# EAGLE library part ATMEGA328P-AU (library OPL5)
8-bit AVR Microcontroller with 32K Bytes In-System Programmable Flash
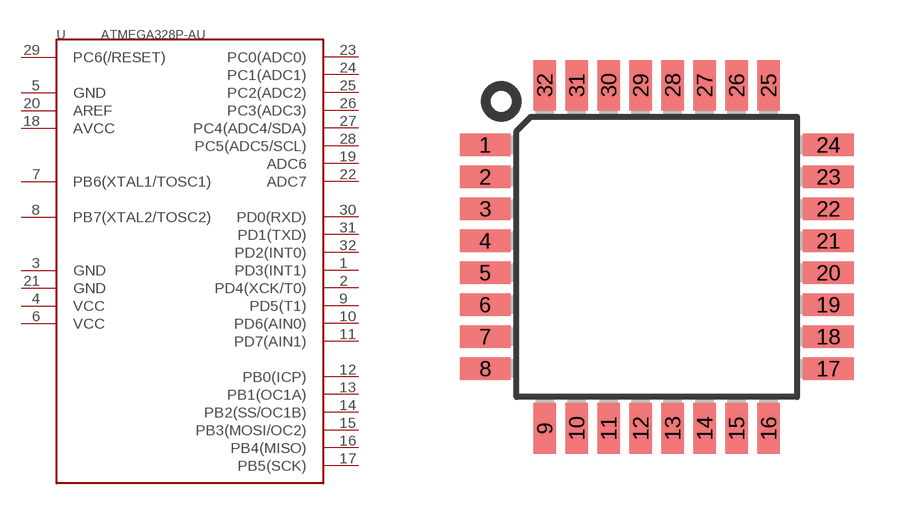
[diagram p2: symbol with the pads of TQFP32; footprint TQFP32]

Designator prefix U

## ATMEGA328P-AU-1030060P1  [TQFP32]
1  PD3(INT1)  sup
2  PD4(XCK/T0)  sup
3  GND  sup
4  VCC  sup
5  GND  sup
6  VCC  sup
7  PB6(XTAL1/TOSC1)  sup
8  PB7(XTAL2/TOSC2)  sup
9  PD5(T1)  sup
10  PD6(AIN0)  sup
11  PD7(AIN1)  sup
12  PB0(ICP)  sup
13  PB1(OC1A)  sup
14  PB2(SS/OC1B)  sup
15  PB3(MOSI/OC2)  sup
16  PB4(MISO)  sup
17  PB5(SCK)  sup
18  AVCC  sup
19  ADC6  sup
20  AREF  sup
21  GND  sup
22  ADC7  sup
23  PC0(ADC0)  sup
24  PC1(ADC1)  sup
25  PC2(ADC2)  sup
26  PC3(ADC3)  sup
27  PC4(ADC4/SDA)  sup
28  PC5(ADC5/SCL)  sup
29  PC6(/RESET)  sup
30  PD0(RXD)  sup
31  PD1(TXD)  sup
32  PD2(INT0)  sup

## Footprint TQFP32 (pad centres in mm)
Thin Plasic Quad Flat Package Grid 0.8 mm
smd 1.27 x 0.559: 1 -4.293,2.8; 2 -4.293,2; 3 -4.293,1.2; 4 -4.293,0.4; 5 -4.293,-0.4; 6 -4.293,-1.2; 7 -4.293,-2; 8 -4.293,-2.8; 17 4.293,-2.8; 18 4.293,-2; 19 4.293,-1.2; 20 4.293,-0.4; 21 4.293,0.4; 22 4.293,1.2; 23 4.293,2; 24 4.293,2.8
smd 0.559 x 1.27: 9 -2.8,-4.293; 10 -2,-4.293; 11 -1.2,-4.293; 12 -0.4,-4.293; 13 0.4,-4.293; 14 1.2,-4.293; 15 2,-4.293; 16 2.8,-4.293; 25 2.8,4.293; 26 2,4.293; 27 1.2,4.293; 28 0.4,4.293; 29 -0.4,4.293; 30 -1.2,4.293; 31 -2,4.293; 32 -2.8,4.293